# Altium footprint library PCBLibLovro.PcbLib: 3 footprints
Each footprint in its own frame and in the unit in brackets; x right, y up, seen from the top. Pads: shape width x height; smd on the part's side, far side on the other; paste and mask are expansions set on the pad; w line width, h text height; cw(c..) or ccw(c..) is an arc to the next point about the centre after c.
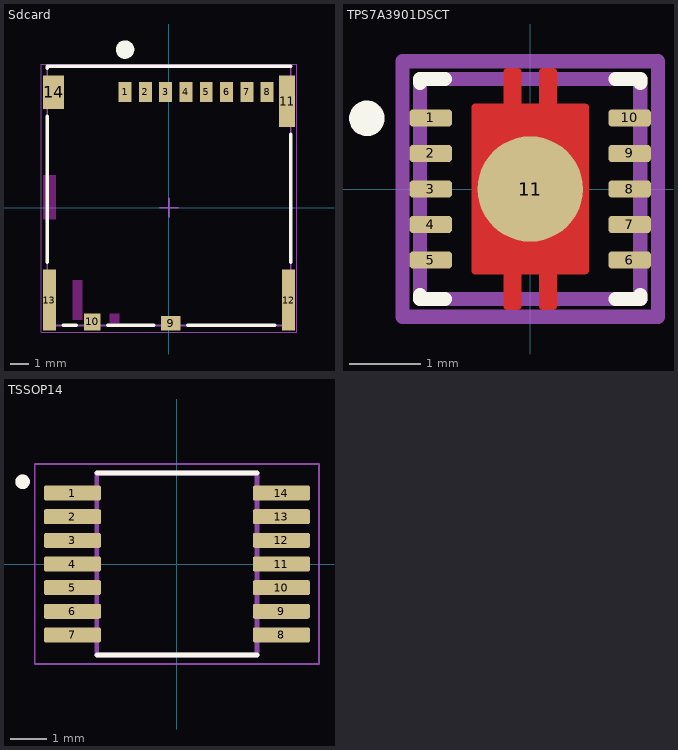
[diagram p0: the footprints below, top view; thin cyan lines are the x and y axes]

## Sdcard [mm]
pads (14):
  rect 0.7x1.1 smd: 1(-2.38,6.27) 2(-1.28,6.27) 3(-0.18,6.27) 4(0.92,6.27) 5(2.02,6.27) 6(3.12,6.27) 7(4.22,6.27) 8(5.32,6.27)
  rect 1.05x0.78 smd: 9(0.095,-6.27)
  rect 0.9x0.93 smd: 10(-4.17,-6.195)
  rect 0.86x2.8 smd: 11(6.4,5.77)
  rect 0.7x3.3 smd: 12(6.48,-5.01) 13(-6.48,-5.01)
  rect 1.14x1.83 smd: 14(-6.26,6.255)
Top Layer keep-out:
  rectangle: -3.22,-6.28 -2.67,-5.73
  rectangle: -5.235,-6.08 -4.685,-3.93
  rectangle: -6.83,-0.63 -6.13,1.77
Top Overlay:
  circle w0.5: c-2.38,8.57 r0.25
  lines w0.2: -6.6,-2.96 -6.6,4.94 ; -6.6,7.57 -6.6,7.67 6.6,7.67 ; -5.73,-6.38 -5.02,-6.38 ; -3.32,-6.38 -0.83,-6.38 ; 1.02,-6.38 5.73,-6.38 ; 6.6,-2.96 6.6,3.97
Mechanical 13:
  lines w0.1: -6.6,-6.38 6.6,-6.38 6.6,7.67 -6.6,7.67 -6.6,-6.38
Mechanical 15:
  lines w0.05: -6.93,-6.76 -6.93,7.77 6.93,7.77 6.93,-6.76 -6.93,-6.76
  lines w0.1: -0.5,0 0.5,0 ; 0,-0.5 0,0.5
3D body "5033981892.stp": height 1.28, standoff 0, extent -6.55,-6.38 6.55,7.67

## TPS7A3901DSCT [mm]
pads (11):
  rrect42% 0.6x0.24 smd paste+0 mask+0: 1(-1.4,1) 2(-1.4,0.5) 3(-1.4,0) 4(-1.4,-0.5) 5(-1.4,-1) 6(1.4,-1) 7(1.4,-0.5) 8(1.4,0) 9(1.4,0.5) 10(1.4,1)
  round 1.485 smd paste-1000 mask+0: 11(0,0)
Top Layer:
  region: -0.825,-1.15 -0.825,-1.16 -0.817,-1.178 -0.803,-1.192 -0.785,-1.2 -0.775,-1.2 -0.375,-1.2 -0.375,-1.65 -0.375,-1.66 -0.367,-1.678 -0.353,-1.692 -0.335,-1.7 -0.325,-1.7 -0.175,-1.7 -0.165,-1.7 -0.147,-1.692 -0.133,-1.678 -0.125,-1.66 -0.125,-1.65 -0.125,-1.2 0.125,-1.2 0.125,-1.65 0.125,-1.66 0.133,-1.678 0.147,-1.692 0.165,-1.7 0.175,-1.7 0.325,-1.7 0.335,-1.7 0.353,-1.692 0.367,-1.678 0.375,-1.66 0.375,-1.65 0.375,-1.2 0.775,-1.2 0.785,-1.2 0.803,-1.192 0.817,-1.178 0.825,-1.16 0.825,-1.15 0.825,1.15 0.825,1.16 0.817,1.178 0.803,1.192 0.785,1.2 0.775,1.2 0.375,1.2 0.375,1.65 0.375,1.66 0.367,1.678 0.353,1.692 0.335,1.7 0.325,1.7 0.175,1.7 0.165,1.7 0.147,1.692 0.133,1.678 0.125,1.66 0.125,1.65 0.125,1.2 -0.125,1.2 -0.125,1.65 -0.125,1.66 -0.133,1.678 -0.147,1.692 -0.165,1.7 -0.175,1.7 -0.325,1.7 -0.335,1.7 -0.353,1.692 -0.367,1.678 -0.375,1.66 -0.375,1.65 -0.375,1.2 -0.775,1.2 -0.785,1.2 -0.803,1.192 -0.817,1.178 -0.825,1.16 -0.825,1.15
Top Overlay:
  circle w0.25: c-2.3,0.995 r0.125
  lines w0.2: -1.55,-1.495 -1.55,-1.55 -1.2,-1.55 ; -1.55,1.495 -1.55,1.55 -1.2,1.55 ; 1.2,-1.55 1.55,-1.55 1.55,-1.495 ; 1.2,1.55 1.55,1.55 1.55,1.495
Top Paste:
  drawing of 6 lines, arcs and shapes, not listed
Top 3D Body:
  lines w0.2: -1.55,-1.55 1.55,-1.55 1.55,1.55 -1.55,1.55 -1.55,-1.55
Board:
  lines w0.2: -1.8,-1.8 1.8,-1.8 1.8,1.8 -1.8,1.8 -1.8,-1.8
Top Assembly:
  lines w0.2: -1.8,-1.8 1.8,-1.8 1.8,1.8 -1.8,1.8 -1.8,-1.8
  text ".Designator" at 0,0.188 h1
Top Component Center:
  lines w0.1: -0.5,0 0.5,0 ; 0,-0.5 0,0.5
3D body "IC_Texas_Instruments_TPS7A3901DSCT_eec.STEP": height 0.25, standoff 0, extent -1.8,-1.8 1.8,1.8

## TSSOP14 [mm]
pads (14):
  rrect25% 1.57x0.41 smd: 1(-2.87,1.95) 2(-2.87,1.3) 3(-2.87,0.65) 4(-2.87,0) 5(-2.87,-0.65) 6(-2.87,-1.3) 7(-2.87,-1.95) 8(2.87,-1.95) 9(2.87,-1.3) 10(2.87,-0.65) 11(2.87,0) 12(2.87,0.65) 13(2.87,1.3) 14(2.87,1.95)
Top Overlay:
  circle w0.2: c-4.24,2.26 r0.1
  lines w0.127: -2.2,-2.5 2.2,-2.5 ; -2.2,2.5 2.2,2.5
Mechanical 13:
  circle w0.2: c-4.24,2.26 r0.1
  lines w0.127: -2.2,-2.5 2.2,-2.5 2.2,2.5 -2.2,2.5 -2.2,-2.5
Mechanical 15:
  lines w0.05: -3.905,-2.75 3.905,-2.75 3.905,2.75 -3.905,2.75 -3.905,-2.75
3D body "step_temp.STEP": height 1.2, standoff 0, extent -3.2,-2.5 3.2,2.5